# Altium footprint library MSOP-8N.PcbLib: 1 footprints
Each footprint in its own frame and in the unit in brackets; x right, y up, seen from the top. Pads: shape width x height; smd on the part's side, far side on the other; paste and mask are expansions set on the pad; w line width, h text height; cw(c..) or ccw(c..) is an arc to the next point about the centre after c.
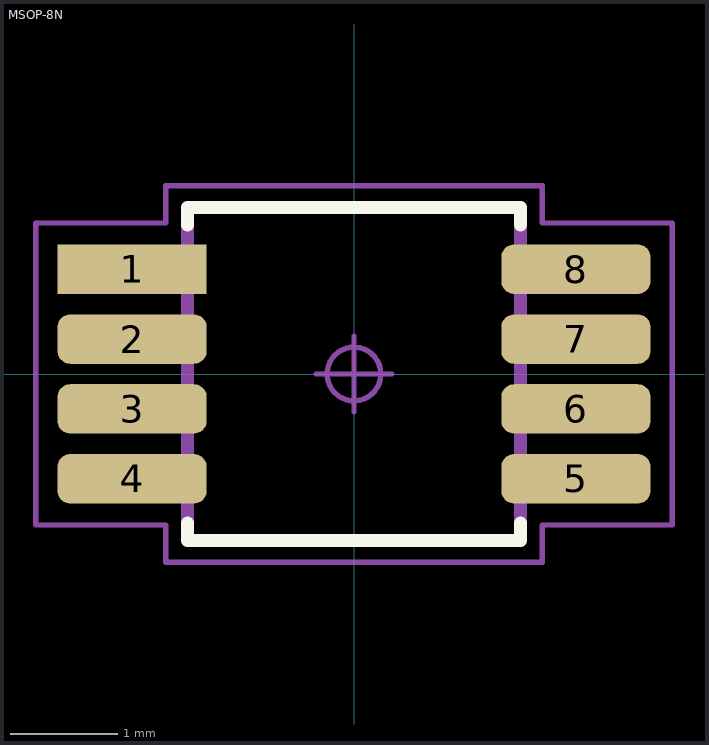
[diagram p0: the footprint, top view; thin cyan lines are the x and y axes]

## MSOP-8N [mm]
height 1.1
pads (8):
  rect 1.39x0.46 smd: 1(-2.065,0.975)
  rrect52% 1.39x0.46 smd: 2(-2.065,0.325) 3(-2.065,-0.325) 4(-2.065,-0.975) 5(2.065,-0.975) 6(2.065,-0.325) 7(2.065,0.325) 8(2.065,0.975)
Top Overlay:
  lines w0.12: -1.55,-1.385 -1.55,-1.55 1.55,-1.55 1.55,-1.385 ; -1.55,1.385 -1.55,1.55 1.55,1.55 1.55,1.385
Assembly Top:
  lines w0.12: -1.55,-1.55 1.55,-1.55 1.55,1.55 -1.55,1.55 -1.55,-1.55
3D Top:
  lines w0.025: -2.45,-1.125 -2.45,-0.825 -1.85,-0.825 -1.85,-1.125 -2.45,-1.125 ; -2.45,-0.475 -2.45,-0.175 -1.85,-0.175 -1.85,-0.475 -2.45,-0.475 ; -2.45,0.175 -2.45,0.475 -1.85,0.475 -1.85,0.175 -2.45,0.175 ; -2.45,0.825 -2.45,1.125 -1.85,1.125 -1.85,0.825 -2.45,0.825 ; -1.5,-1.5 1.5,-1.5 1.5,1.5 -1.5,1.5 -1.5,-1.5 ; 1.85,-1.125 2.45,-1.125 2.45,-0.825 1.85,-0.825 1.85,-1.125 ; 1.85,-0.475 2.45,-0.475 2.45,-0.175 1.85,-0.175 1.85,-0.475 ; 1.85,0.175 2.45,0.175 2.45,0.475 1.85,0.475 1.85,0.175 ; 1.85,0.825 2.45,0.825 2.45,1.125 1.85,1.125 1.85,0.825
Courtyard Top:
  circle w0.05: c0,0 r0.25
  lines w0.05: -0.35,0 0.35,0 ; 0,-0.35 0,0.35 ; -2.96,-1.405 -1.75,-1.405 -1.75,-1.75 1.75,-1.75 1.75,-1.405 2.96,-1.405 2.96,1.405 1.75,1.405 1.75,1.75 -1.75,1.75 -1.75,1.405 -2.96,1.405 -2.96,-1.405
3D body: height 1.1, standoff 0, extent -2.487,-1.524 2.413,1.476